# Altium footprint library MODULE_ESP32-WROOM-32UE(M113EH6400UH3Q0).PcbLib: 1 footprints
Each footprint in its own frame and in the unit in brackets; x right, y up, seen from the top. Pads: shape width x height; smd on the part's side, far side on the other; paste and mask are expansions set on the pad; w line width, h text height; cw(c..) or ccw(c..) is an arc to the next point about the centre after c.
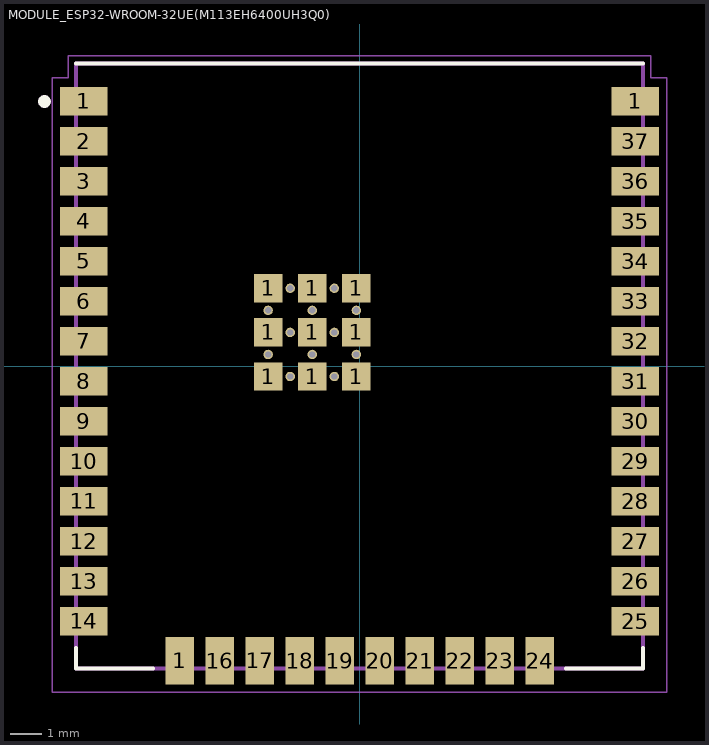
[diagram p0: the footprint, top view; thin cyan lines are the x and y axes]

## MODULE_ESP32-WROOM-32UE(M113EH6400UH3Q0) [mm]
height 3.35
pads (59):
  rect 1.5x0.9 smd: 1(-8.75,8.41) 1(8.75,8.41) 2(-8.75,7.14) 3(-8.75,5.87) 4(-8.75,4.6) 5(-8.75,3.33) 6(-8.75,2.06) 7(-8.75,0.79) 8(-8.75,-0.48) 9(-8.75,-1.75) 10(-8.75,-3.02) 11(-8.75,-4.29) 12(-8.75,-5.56) 13(-8.75,-6.83) 14(-8.75,-8.1) 25(8.75,-8.1) 26(8.75,-6.83) 27(8.75,-5.56) 28(8.75,-4.29) 29(8.75,-3.02) 30(8.75,-1.75) 31(8.75,-0.48) 32(8.75,0.79) 33(8.75,2.06) 34(8.75,3.33) 35(8.75,4.6) 36(8.75,5.87) 37(8.75,7.14)
  rect 0.9x1.5 smd: 1(-5.71,-9.35) 16(-4.44,-9.35) 17(-3.17,-9.35) 18(-1.9,-9.35) 19(-0.63,-9.35) 20(0.64,-9.35) 21(1.91,-9.35) 22(3.18,-9.35) 23(4.45,-9.35) 24(5.72,-9.35)
  rect 0.9x0.9 smd: 1(-2.9,-0.33) 1(-2.9,1.07) 1(-2.9,2.47) 1(-1.5,-0.33) 1(-1.5,1.07) 1(-1.5,2.47) 1(-0.1,-0.33) 1(-0.1,1.07) 1(-0.1,2.47)
  round 0.3 hole 0.2: 39_10(-2.2,2.47) 39_11(-0.8,2.47) 39_12(-2.9,1.77) 39_13(-1.5,1.77) 39_14(-0.1,1.77) 39_15(-2.2,1.07) 39_16(-0.8,1.07) 39_17(-2.9,0.37) 39_18(-1.5,0.37) 39_19(-0.1,0.37) 39_20(-2.2,-0.33) 39_21(-0.8,-0.33)
Top Overlay:
  circle w0.2: c-10,8.4 r0.1
  lines w0.127: -9,-8.95 -9,-9.6 -6.55,-9.6 ; -9,9.6 9,9.6 ; 6.55,-9.6 9,-9.6 9,-8.95
Mechanical 13:
  circle w0.2: c-10,8.4 r0.1
  lines w0.127: -9,-9.6 -9,9.6 9,9.6 9,-9.6 -9,-9.6
Mechanical 15:
  lines w0.05: -9.75,-10.35 -9.75,9.15 -9.25,9.15 -9.25,9.85 9.25,9.85 9.25,9.15 9.75,9.15 9.75,-10.35 -9.75,-10.35
3D body "step_temp.STEP": height 3.35, standoff 0, extent -9,-9.6 9,9.6